# EAGLE library part CONNEX (library gumstix)
connexdaughtercard The connex device is the framework for connecting a gumstix connex computer into a daughtercard that requires address/data bus access. Two footprints are included: 1) The header connector, and 2) The header connector and an outline of the overlying gumstix including the 3 drillholes and general 'keep out' regions where the connex board has devices that exceed 1mm in height.
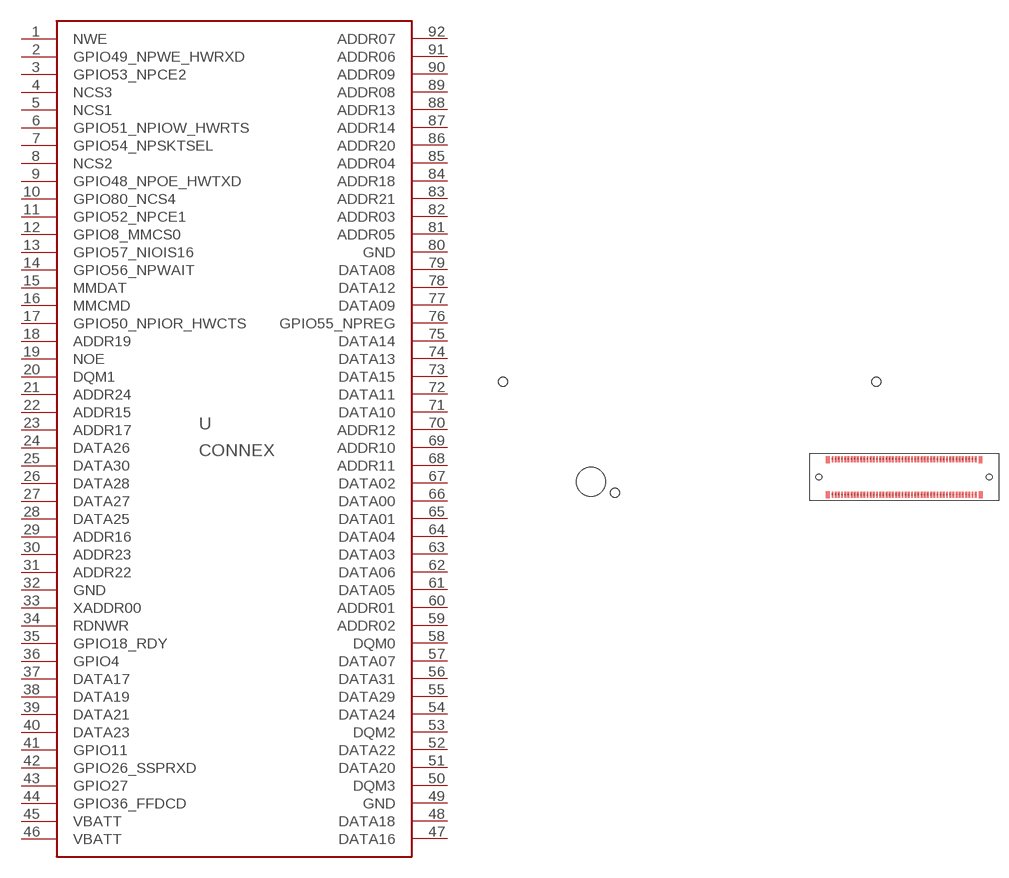
[diagram p2: symbol with the pads of FX11; footprint FX11]

Designator prefix -

## CONNEXGUMSTIX  [FX11]
1  NWE
2  GPIO49_NPWE_HWRXD
3  GPIO53_NPCE2
4  NCS3
5  NCS1
6  GPIO51_NPIOW_HWRTS
7  GPIO54_NPSKTSEL
8  NCS2
9  GPIO48_NPOE_HWTXD
10  GPIO80_NCS4
11  GPIO52_NPCE1
12  GPIO8_MMCS0
13  GPIO57_NIOIS16
14  GPIO56_NPWAIT
15  MMDAT
16  MMCMD
17  GPIO50_NPIOR_HWCTS
18  ADDR19
19  NOE
20  DQM1
21  ADDR24
22  ADDR15
23  ADDR17
24  DATA26
25  DATA30
26  DATA28
27  DATA27
28  DATA25
29  ADDR16
30  ADDR23
31  ADDR22
32  GND
33  XADDR00
34  RDNWR
35  GPIO18_RDY
36  GPIO4
37  DATA17
38  DATA19
39  DATA21
40  DATA23
41  GPIO11
42  GPIO26_SSPRXD
43  GPIO27
44  GPIO36_FFDCD
45  VBATT
46  VBATT
47  DATA16
48  DATA18
49  GND
50  DQM3
51  DATA20
52  DATA22
53  DQM2
54  DATA24
55  DATA29
56  DATA31
57  DATA07
58  DQM0
59  ADDR02
60  ADDR01
61  DATA05
62  DATA06
63  DATA03
64  DATA04
65  DATA01
66  DATA00
67  DATA02
68  ADDR11
69  ADDR10
70  ADDR12
71  DATA10
72  DATA11
73  DATA15
74  DATA13
75  DATA14
76  GPIO55_NPREG
77  DATA09
78  DATA12
79  DATA08
80  GND
81  ADDR05
82  ADDR03
83  ADDR21
84  ADDR18
85  ADDR04
86  ADDR20
87  ADDR14
88  ADDR13
89  ADDR08
90  ADDR09
91  ADDR06
92  ADDR07

## Footprint FX11 (pad centres in mm)
smd 0.3 x 0.9: 1 76,0.95; 2 75.5,0.95; 3 75,0.95; 4 74.5,0.95; 5 74,0.95; 6 73.5,0.95; 7 73,0.95; 8 72.5,0.95; 9 72,0.95; 10 71.5,0.95; 11 71,0.95; 12 70.5,0.95; 13 70,0.95; 14 69.5,0.95; 15 69,0.95; 16 68.5,0.95; 17 68,0.95; 18 67.5,0.95; 19 67,0.95; 20 66.5,0.95; 21 66,0.95; 22 65.5,0.95; 23 65,0.95; 24 64.5,0.95; 25 64,0.95; 26 63.5,0.95; 27 63,0.95; 28 62.5,0.95; 29 62,0.95; 30 61.5,0.95; 31 61,0.95; 32 60.5,0.95; 33 60,0.95; 34 59.5,0.95; 35 59,0.95; 36 58.5,0.95; 37 58,0.95; 38 57.5,0.95; 39 57,0.95; 40 56.5,0.95; 41 56,0.95; 42 55.5,0.95; 43 55,0.95; 44 54.5,0.95; 45 54,0.95; 46 53.5,0.95; 47 53.5,6.55; 48 54,6.55; 49 54.5,6.55; 50 55,6.55; 51 55.5,6.55; 52 56,6.55; 53 56.5,6.55; 54 57,6.55; 55 57.5,6.55; 56 58,6.55; 57 58.5,6.55; 58 59,6.55; 59 59.5,6.55; 60 60,6.55; 61 60.5,6.55; 62 61,6.55; 63 61.5,6.55; 64 62,6.55; 65 62.5,6.55; 66 63,6.55; 67 63.5,6.55; 68 64,6.55; 69 64.5,6.55; 70 65,6.55; 71 65.5,6.55; 72 66,6.55; 73 66.5,6.55; 74 67,6.55; 75 67.5,6.55; 76 68,6.55; 77 68.5,6.55; 78 69,6.55; 79 69.5,6.55; 80 70,6.55; 81 70.5,6.55; 82 71,6.55; 83 71.5,6.55; 84 72,6.55; 85 72.5,6.55; 86 73,6.55; 87 73.5,6.55; 88 74,6.55; 89 74.5,6.55; 90 75,6.55; 91 75.5,6.55; 92 76,6.55
hole 0.9 at 51.35,3.75
hole 0.9 at 78.15,3.75
hole 1.422 at 19.25,1.25
hole 1.422 at 1.65,18.75
hole 4.5 at 15.5,3
hole 1.422 at 60.35,18.75